# Altium schematic symbol library 1808HC331KAT1A.SchLib: 1 symbol
Pins are listed as number, name and electrical type; pins without a type are passive.

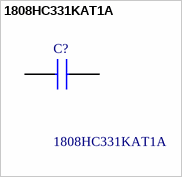
[diagram p0: symbol 1808HC331KAT1A]

## 1808HC331KAT1A
designator C?
Multilayer Ceramic Capacitors MLCC - SMD/SMT 3kV 330pF X7R 1808 10%; Manufacturer_Name: Kyocera AVX; Geometry.Height: 2.2mm; Manufacturer_Part_Number: 1808HC331KAT1A; Mouser Part Number: 581-1808HC331KAT1A; Mouser Price/Stock: https://www.mouser.co.uk/ProductDetail/KYOCERA-AVX/1808HC331KAT1A?qs=OofVhbh5jGBg6ES05SErvg%3D%3D; Arrow Part Number: *; Arrow Price/Stock: *; Datasheet Link: https://componentsearchengine.com/Datasheets/2/1808HC331KAT1A.pdf
footprint CAPC4620X220N
pins: 1, 2